# Altium footprint library Theremin.PcbLib: 21 footprints (part 2 of 2)
Each footprint in its own frame and in the unit in brackets; x right, y up, seen from the top. Pads: shape width x height; smd on the part's side, far side on the other; paste and mask are expansions set on the pad; w line width, h text height; cw(c..) or ccw(c..) is an arc to the next point about the centre after c.
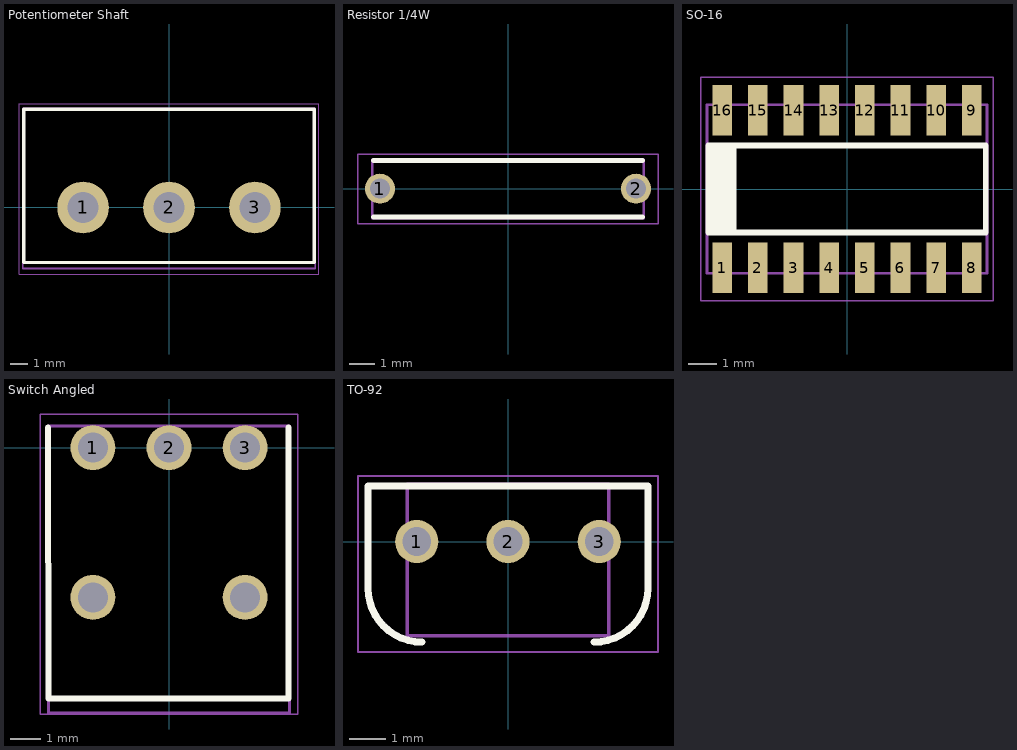
[diagram p1: the footprints below, top view; thin cyan lines are the x and y axes]

## Potentiometer Shaft [mm]
pads (3):
  round 3 hole 1.8: 1(-5,0) 2(0,0) 3(5,0)
Top Overlay:
  lines w0.2: -8.45,-3.2 -8.45,5.725 8.45,5.725 8.45,-3.2 -8.45,-3.2
Mechanical 13:
  lines w0.1: -8.5,-3.55 -8.5,5.775 8.5,5.775 8.5,-3.55 -8.5,-3.55
  text ".Designator" at 0.2,-4.7 h1.5
Mechanical 15:
  lines w0.05: -8.725,-3.875 8.725,-3.875 8.725,6.025 -8.725,6.025 -8.725,-3.875
3D body "User Library-TrimPot.step": height 22.3, standoff -2.9, extent -8.492,-18.425 8.492,5.775

## Resistor 1/4W [mm]
pads (2):
  round 1.2 hole 0.8: 1(-5.1,0) 2(5.1,0)
Top Overlay:
  lines w0.2: -5.35,-1.125 5.35,-1.125 ; -5.35,1.125 5.35,1.125
Mechanical 13:
  lines w0.1: -5.4,-1.175 -5.4,1.15 5.4,1.15 5.4,-1.175 -5.4,-1.175
  text ".Designator" at -2.45,-0.317 h1
Mechanical 15:
  lines w0.05: -5.975,-1.4 5.975,-1.4 5.975,1.375 -5.975,1.375 -5.975,-1.4
3D body "User Library-RESISTOR, 0_25 W, 0_4 IN LEAD PITCH.step": height 3.93, standoff -1.54, extent -5.385,-1.156 5.385,1.156

## SO-16 [mm]
pads (16):
  rect 0.7x1.8 smd: 1(-4.445,-2.8) 2(-3.175,-2.8) 3(-1.905,-2.8) 4(-0.635,-2.8) 5(0.635,-2.8) 6(1.905,-2.8) 7(3.175,-2.8) 8(4.445,-2.8) 9(4.445,2.8) 10(3.175,2.8) 11(1.905,2.8) 12(0.635,2.8) 13(-0.635,2.8) 14(-1.905,2.8) 15(-3.175,2.8) 16(-4.445,2.8)
Top Overlay:
  region: -4.94,-1.55 -4.94,1.55 -3.94,1.55 -3.94,-1.55
  lines w0.2: -4.94,-1.55 -4.94,1.55 4.94,1.55 4.94,-1.55 -4.94,-1.55
Mechanical 13:
  lines w0.1: -4.99,-3 -4.99,3 4.99,3 4.99,-3 -4.99,-3
  text ".Designator" at -4.725,-0.085 h1.2
Mechanical 15:
  lines w0.05: -5.215,-3.975 5.215,-3.975 5.215,3.975 -5.215,3.975 -5.215,-3.975
3D body "User Library-SOIC-16-1.step": height 1.4, standoff 0, extent -4.95,-3 4.95,3

## Switch Angled [mm]
pads (5):
  round 1.5 hole 1: 1(-2.54,0) 2(0,0) 3(2.54,0) ""(-2.54,-5.002) ""(2.54,-5.002)
Top Overlay:
  lines w0.2: -4.05,0.675 -4.026,-8.387 ; -4.025,-8.387 2.862,-8.387 4,-8.387 4,0.675
Mechanical 13:
  lines w0.1: -4.025,-8.862 1.138,-8.862 4.025,-8.862 4.025,0.725 -4.025,0.725 -4.025,-8.862
Mechanical 15:
  lines w0.05: -4.3,-8.9 4.3,-8.9 4.3,1.125 -4.3,1.125 -4.3,-8.9
3D body "7347220P.stp": height 8, standoff -1.35, extent -4.065,-19.422 4.065,0.768

## TO-92 [mm]
pads (3):
  round 1.2 hole 0.8: 1(-2.54,0) 2(0,0) 3(2.54,0)
Top Overlay:
  lines w0.2: -2.395,-2.8 cw(c-2.395,-1.3) -3.895,-1.3 -3.895,1.55 3.895,1.55 3.895,-1.3 cw(c2.395,-1.3) 2.395,-2.8
Mechanical 13:
  lines w0.1: -2.8,-2.625 -2.8,1.6 2.8,1.6 2.8,-2.625 -2.8,-2.625
  text ".Designator" at -2.1,-0.967 h1
Mechanical 15:
  lines w0.05: -4.175,-3.075 -4.175,1.825 4.175,1.825 4.175,-3.075 -4.175,-3.075
3D body "User Library-TO-92_Bent.STEP": height 10, standoff -3, extent -2.79,-2.613 2.79,1.591